# EAGLE library part TRIMPOT_UNIV (library OldModernDeviceBackup)
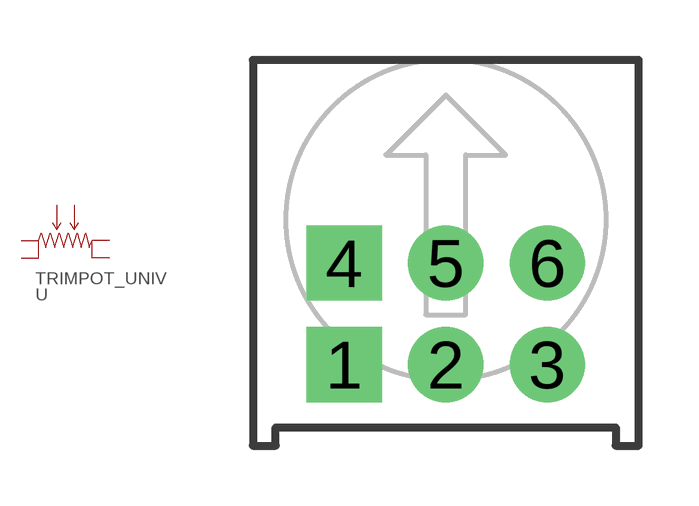
[diagram p47: symbol with the pads of 3386U; footprint 3386U]

Designator prefix -

## TRIMPOT_UNIV3386U  [3386U]
1  CCW  pas
2  WIPER  pas
3  CW  pas
4  CCW2  pas
5  WIPER2  pas
6  CW2  pas

## Footprint 3386U (pad centres in mm)
TSR-3386U Trimpot Trimpot with a knob Universal Footprint for several pot styles
drill 1.016 pad 1.88 square: 1 -2.54,-3.048; 4 -2.54,-0.508
drill 1.016 pad 1.88: 2 0,-3.048; 3 2.54,-3.048; 5 0,-0.508; 6 2.54,-0.508